# Altium integrated library TPS54302DDCR.IntLib: 1 symbol
Pins are listed as number, name and electrical type; pins without a type are passive.

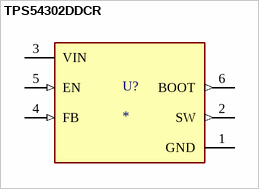
[diagram p0: symbol TPS54302DDCR]

## TPS54302DDCR
designator U?
4.5-V to 28-V Input, 3-A Output, EMI Friendly Synchronous Step-Down Converter 6-SOT-23-THIN -40 to 125; MP: TPS54302DDCR; Price: None; Value: *; Availability: Unavailable; Package: None
footprint SOT95P280X110-6N
pins: 1 GND (power), 2 SW (out), 3 VIN (power), 4 FB (in), 5 EN (in), 6 BOOT (out)